# Altium footprint library SOT-23.PcbLib: 1 footprints
Each footprint in its own frame and in the unit in brackets; x right, y up, seen from the top. Pads: shape width x height; smd on the part's side, far side on the other; paste and mask are expansions set on the pad; w line width, h text height; cw(c..) or ccw(c..) is an arc to the next point about the centre after c.
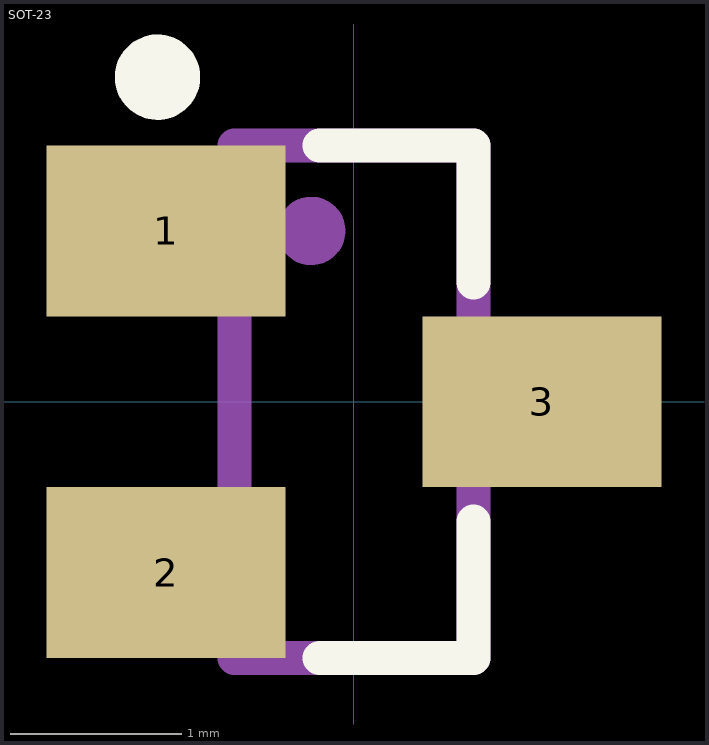
[diagram p0: the footprint, top view; thin cyan lines are the x and y axes]

## SOT-23 [mm]
height 1.1
pads (3):
  rect 1.4x1 smd: 1(-1.1,1) 2(-1.1,-1) 3(1.1,0)
Top Overlay:
  circle w0.25: c-1.15,1.9 r0.125
  lines w0.2: -0.2,-1.5 0.7,-1.5 0.7,-0.7 ; -0.2,1.5 0.7,1.5 0.7,0.7
Mechanical 7:
  circle w0.2: c-0.25,1 r0.1
  lines w0.2: -0.7,-1.2 -1.1,-1.2 -1.1,-0.7 -0.7,-0.7 ; -0.7,0.7 -1.1,0.7 -1.1,1.2 -0.7,1.2 ; 0.7,-0.2 1.1,-0.2 1.1,-0.1 1.1,0.3 1,0.3 0.7,0.3 ; -0.7,-1.5 0.7,-1.5 0.7,1.5 -0.7,1.5 -0.7,-1.5
3D body "sot23.step": height 1, standoff 0, extent -1.2,-1.5 1.2,1.5